# Altium footprint library T-Block6.PcbLib: 1 footprints
Each footprint in its own frame and in the unit in brackets; x right, y up, seen from the top. Pads: shape width x height; smd on the part's side, far side on the other; paste and mask are expansions set on the pad; w line width, h text height; cw(c..) or ccw(c..) is an arc to the next point about the centre after c.
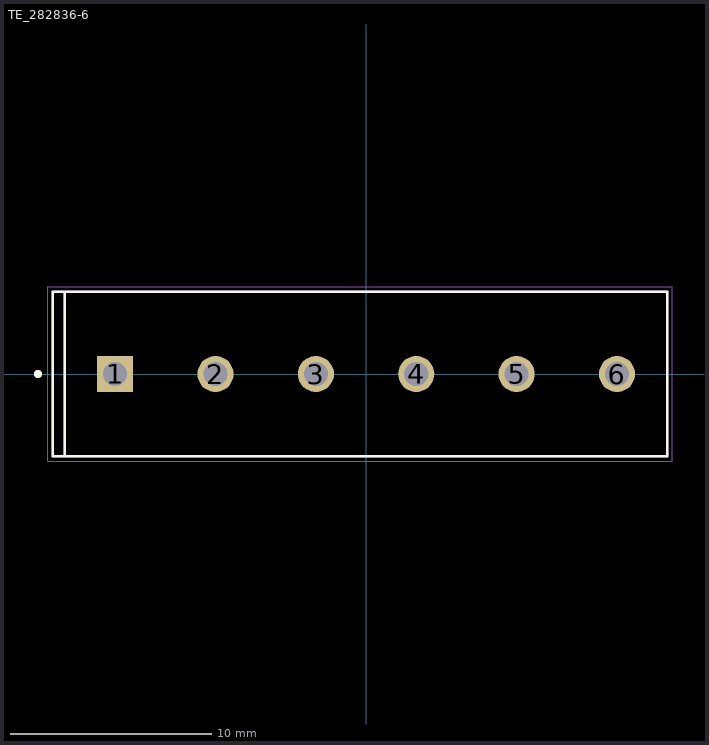
[diagram p0: the footprint, top view; thin cyan lines are the x and y axes]

## TE_282836-6 [mm]
height 10
pads (6):
  rect 1.8x1.8 hole 1.2: 1(-12.5,0)
  round 1.8 hole 1.2: 2(-7.5,0) 3(-2.5,0) 4(2.5,0) 5(7.5,0) 6(12.5,0)
Top Overlay:
  circle w0.2: c-16.35,0 r0.1
  lines w0.127: -15,-4.1 15,-4.1 15,4.1 -15,4.1 ; -15,-4.1 -15,4.1 ; -15,-4.1 -15.6,-4.1 -15.6,4.1 -15,4.1
Mechanical 13:
  circle w0.2: c-16.35,0 r0.1
  lines w0.127: -15,-4.1 15,-4.1 15,4.1 -15,4.1 ; -15,-4.1 -15,4.1 ; -15,-4.1 -15.6,-4.1 -15.6,4.1 -15,4.1
Mechanical 15:
  lines w0.05: -15.85,-4.35 -15.85,4.35 15.25,4.35 15.25,-4.35 -15.85,-4.35
3D body "step_temp.STEP": height 10.01, standoff -3.49, extent -15.554,-4.136 15.046,4.064